# Altium footprint library TO-247-3 - FaceDown.PcbLib: 1 footprints
Each footprint in its own frame and in the unit in brackets; x right, y up, seen from the top. Pads: shape width x height; smd on the part's side, far side on the other; paste and mask are expansions set on the pad; w line width, h text height; cw(c..) or ccw(c..) is an arc to the next point about the centre after c.
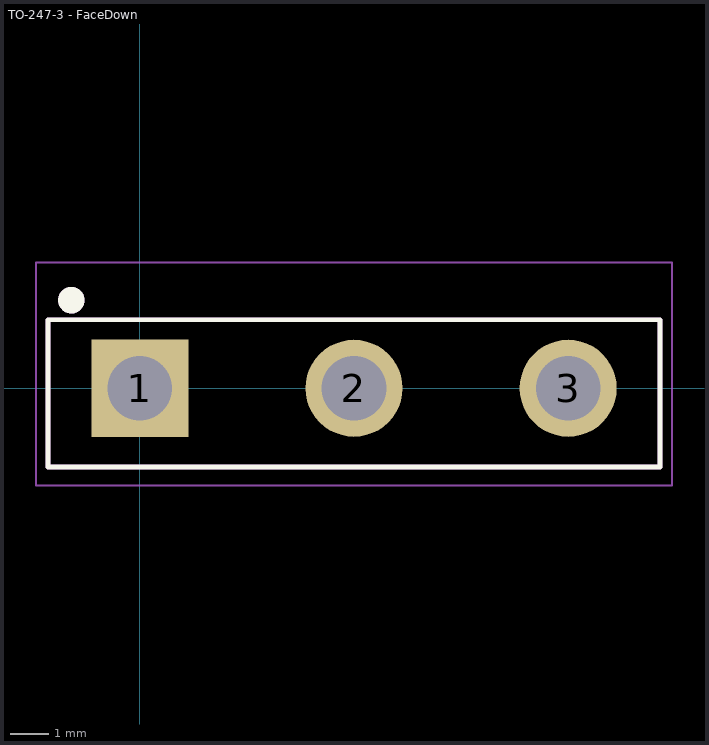
[diagram p0: the footprint, top view; thin cyan lines are the x and y axes]

## TO-247-3 - FaceDown [mm]
pads (3):
  rect 2.52x2.52 hole 1.68: 1(0,0)
  round 2.52 hole 1.68: 2(5.56,0) 3(11.12,0)
Top Overlay:
  circle w0.381: c-1.778,2.286 r0.152
  lines w0.127: -2.38,-2.04 13.5,-2.04 13.5,1.778 -2.38,1.778 -2.38,-2.04
Mechanical 13:
  circle w0.381: c-1.778,2.286 r0.152
  lines w0.127: -2.38,-2.04 -2.38,1.778 13.5,1.778 13.5,-2.04 -2.38,-2.04
Mechanical 15:
  lines w0.05: -2.7,-2.53 -2.7,3.27 13.82,3.27 13.82,-2.53 -2.7,-2.53
3D body "User Library-TO-247_bent_leads.step": height 5.5, standoff -6.5, extent -2.39,-26.582 13.51,0.4